# EAGLE library part EDSTLZ-10 (library con-ost)
ON-SHORE
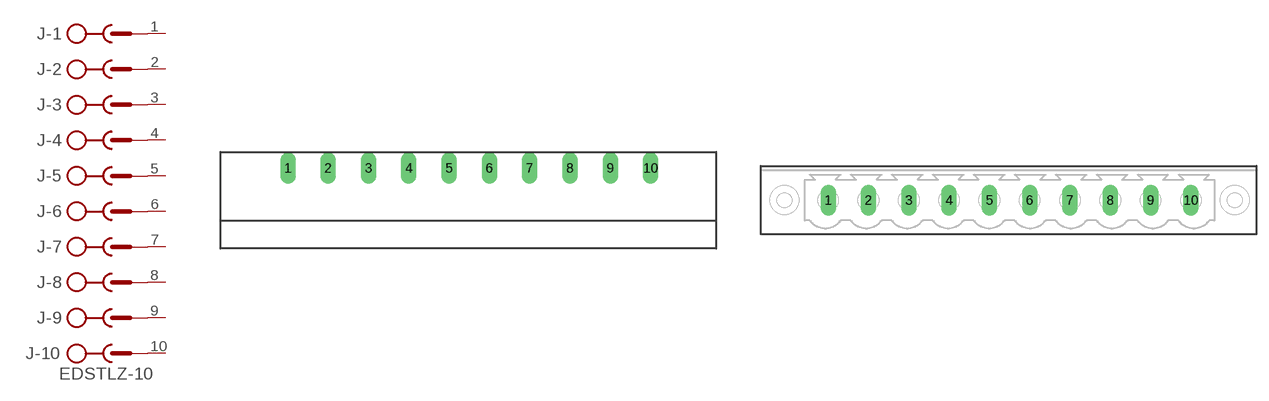
[diagram p4: symbol with the pads of 951-10; footprints 951-10, 956-10]

Designator prefix J; gates -1=SK -2=SK -3=SK -4=SK -5=SK -6=SK -7=SK -8=SK -9=SK -10=SKV

## EDSTLZ-10-951  [951-10]
1  -1:SK  pas
2  -2:SK  pas
3  -3:SK  pas
4  -4:SK  pas
5  -5:SK  pas
6  -6:SK  pas
7  -7:SK  pas
8  -8:SK  pas
9  -9:SK  pas
10  -10:SK  pas

## EDSTLZ-10-956  [956-10]
Pads as for 951-10

## EDSTLZ-10-1555  [1555-10]
Pads as for 951-10

## Footprint 951-10 (pad centres in mm)
Connector Right Angle pitch 0.2" (5 mm)
drill 1.27 pad 1.93 long: 1 -22.5,0; 2 -17.5,0; 3 -12.5,0; 4 -7.5,0; 5 -2.5,0; 6 2.5,0; 7 7.5,0; 8 12.5,0; 9 17.5,0; 10 22.5,0

## Footprint 956-10 (pad centres in mm)
Connector Vertical pitch 0.2" (5 mm)
drill 1.27 pad 1.93 long: 1 -22.5,0; 2 -17.5,0; 3 -12.5,0; 4 -7.5,0; 5 -2.5,0; 6 2.5,0; 7 7.5,0; 8 12.5,0; 9 17.5,0; 10 22.5,0

## Footprint 1555-10 (pad centres in mm)
Connector Vertical pitch 0.15" (3.81 mm)
drill 1.27 pad 1.93 long: 1 -17.145,0; 2 -13.335,0; 3 -9.525,0; 4 -5.715,0; 5 -1.905,0; 6 1.905,0; 7 5.715,0; 8 9.525,0; 9 13.335,0; 10 17.145,0